# EAGLE library part DRF1278F (library MiiLib)
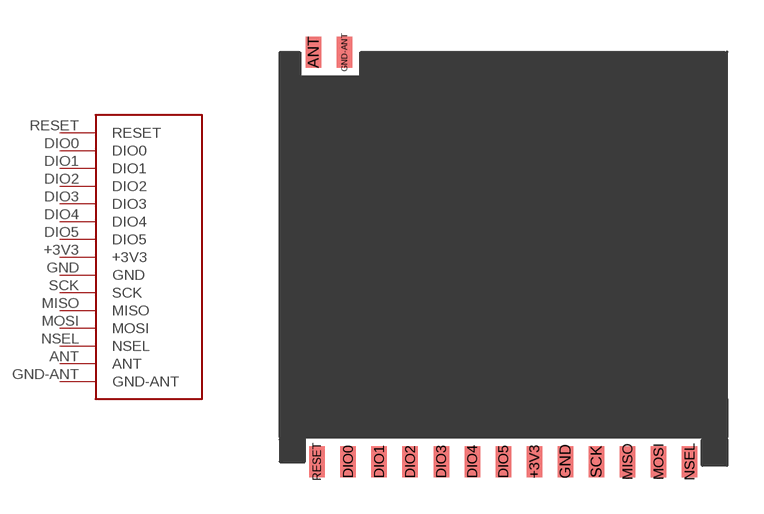
[diagram p11: symbol with the pads of DRF1278F; footprint DRF1278F]

Designator prefix -

## DRF1278F  [DRF1278F]
+3V3  +3V3
ANT  ANT
DIO0  DIO0
DIO1  DIO1
DIO2  DIO2
DIO3  DIO3
DIO4  DIO4
DIO5  DIO5
GND  GND
GND-ANT  GND-ANT
MISO  MISO
MOSI  MOSI
NSEL  NSEL
RESET  RESET
SCK  SCK

## Footprint DRF1278F (pad centres in mm)
smd 0.635 x 1.27: +3V3 0.24,-7.62; ANT -8.79,9.144; DIO0 -7.38,-7.62; DIO1 -6.11,-7.62; DIO2 -4.84,-7.62; DIO3 -3.57,-7.62; DIO4 -2.3,-7.62; DIO5 -1.03,-7.62; GND 1.51,-7.62; GND-ANT -7.52,9.144; MISO 4.05,-7.62; MOSI 5.32,-7.62; NSEL 6.59,-7.62; RESET -8.65,-7.62; SCK 2.78,-7.62